# Altium schematic symbol library sensor_accel-gyro-compass.SchLib: 21 symbols
Pins are listed as number, name and electrical type; pins without a type are passive.

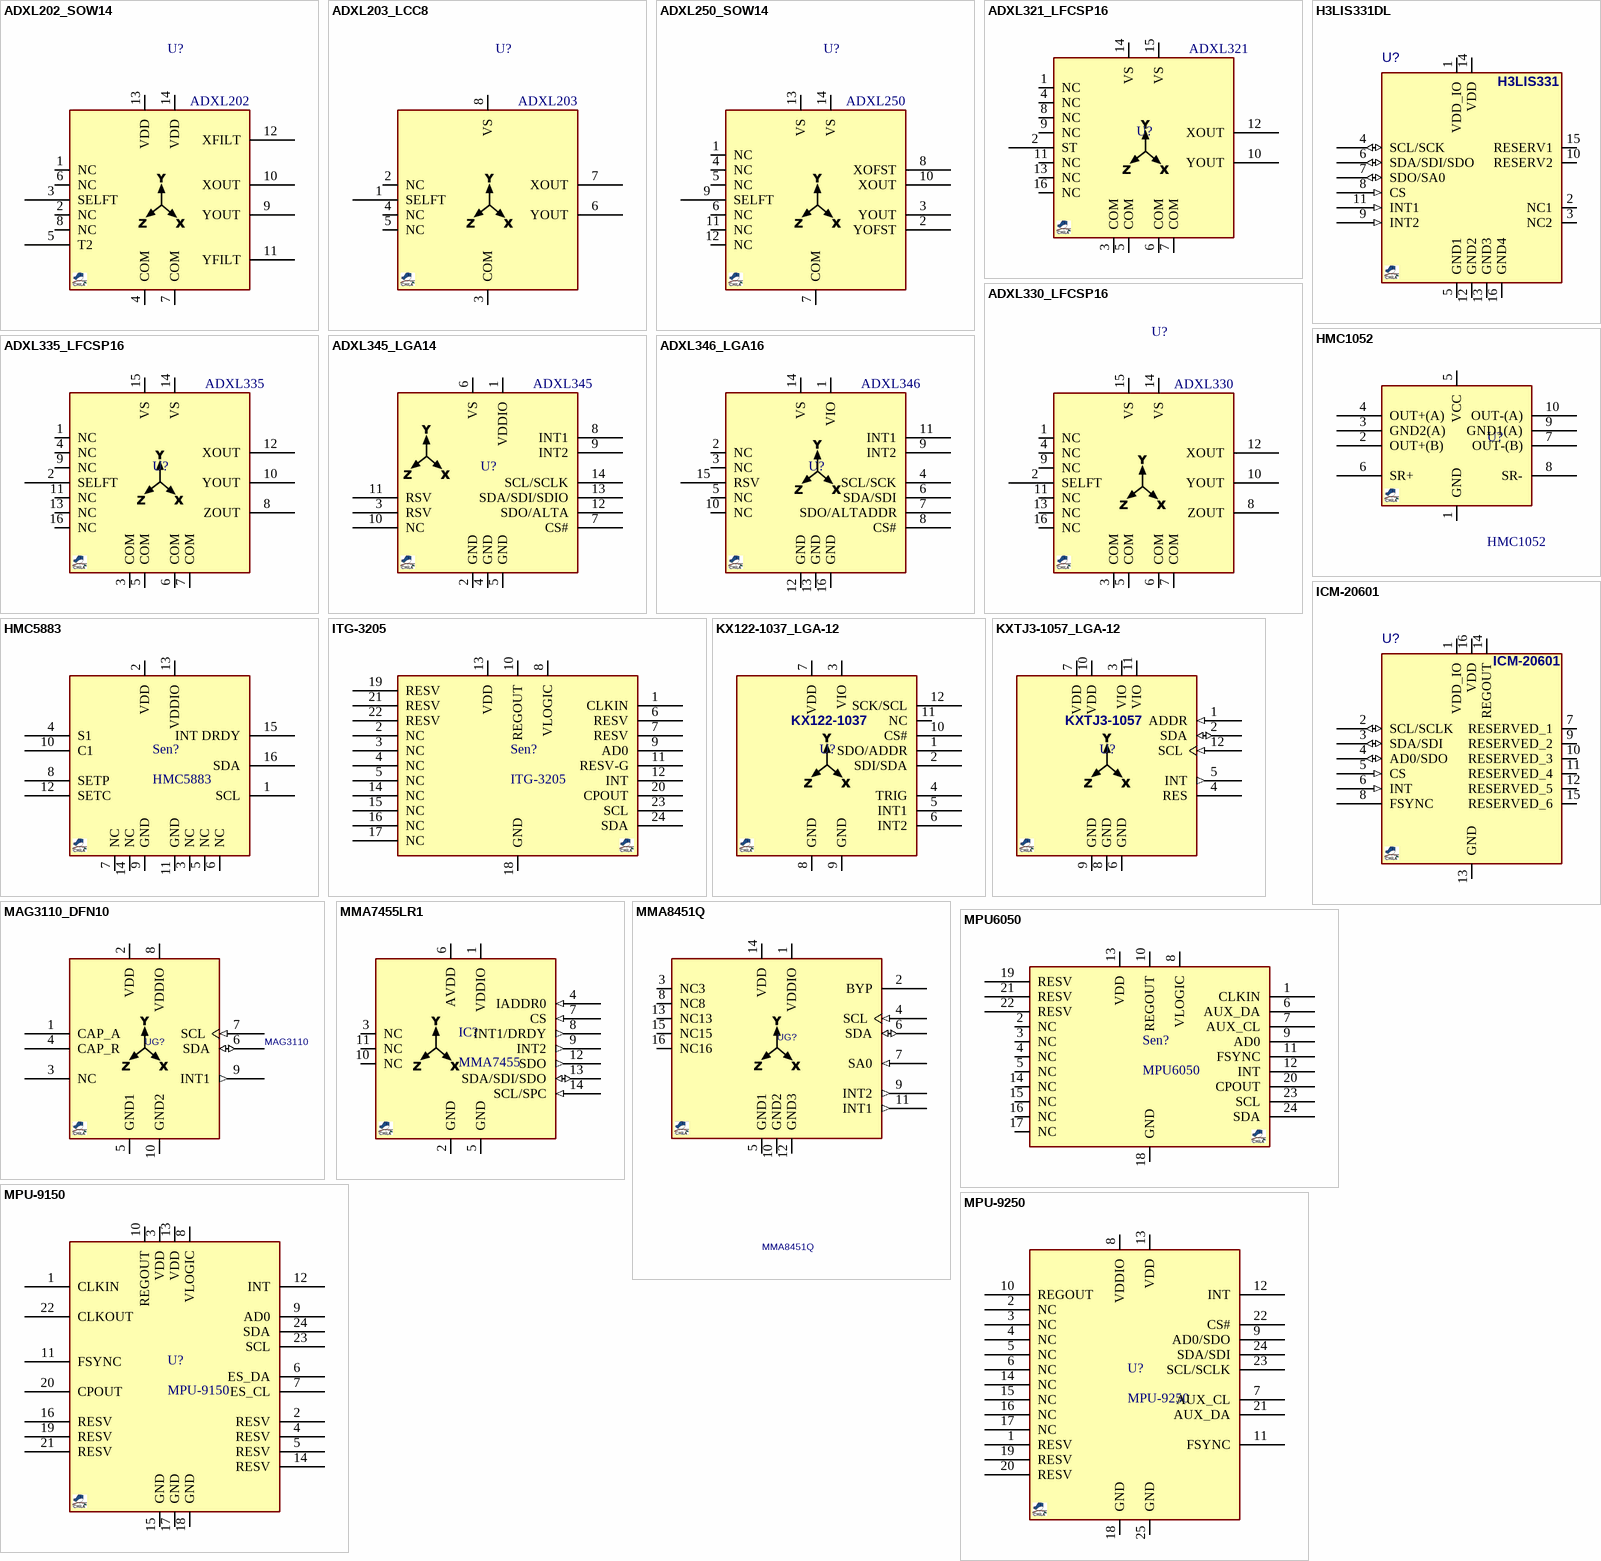
[diagram p0: symbols ADXL202_SOW14 to MPU-9250]

## ADXL202_SOW14
designator U?, comment ADXL202
Sensor, Accelerometer, Dual Axis; MANF: Analog Devices; MANF_P#: ADXL202AQC, ADXL202JQC; PARAM2: 3~5.5VCC; PARAM: PARAM; PRICE: 16,000toman@PAYA; VALUE: ADXL202
footprint QFN127_8_5X5 (E-8-1, LCC 8, ADXL103, ADXL203)
pins: 1 NC, 2 NC, 3 SELFT, 4 COM, 5 T2, 6 NC, 7 COM, 8 NC, 9 YOUT, 10 XOUT, 11 YFILT, 12 XFILT, 13 VDD, 14 VDD

## ADXL203_LCC8
designator U?, comment ADXL203
Sensor, Accelerometer, Dual Axis; MANF: Analog Devices; MANF_P#: ADXL203CE; PARAM2: 3~6VCC; PARAM: PARAM; PRICE: 60,000toman@PAYA; VALUE: ADXL203
footprint QFN127_8_5X5 (E-8-1, LCC 8, ADXL103, ADXL203)
pins: 1 SELFT, 2 NC, 3 COM, 4 NC, 5 NC, 6 YOUT, 7 XOUT, 8 VS

## ADXL250_SOW14
designator U?, comment ADXL250
Sensor, Accelerometer, Dual Axis; MANF: Analog Devices; MANF_P#: ADXL250AQC; PARAM: PARAM; PRICE: 24000toman@PAYA; VALUE: ADXL250
footprint SO_14_W (SOP, SOIC, 7.5mm wide, 1.27mm pitch,)
pins: 1 NC, 2 YOFST, 3 YOUT, 4 NC, 5 NC, 6 NC, 7 COM, 8 XOFST, 9 SELFT, 10 XOUT, 11 NC, 12 NC, 13 VS, 14 VS

## ADXL321_LFCSP16
designator U?, comment ADXL321
Sensor, Accelerometer, Dual Axis, +/-18g, 3mg-resolution@50Hz; MANF: Analog Devices; MANF_P#: ADXL321JCP; PARAM2: 2.4~6VCC; PARAM: +/-18g, 3mg-resolution@50Hz; PRICE: 33000toman@PAYA; VALUE: ADXL321
footprint QFN65_16T_4X4 (QFN, 16-Leads, Body 4.00x4.00mm, Pitch 0.65mm, ADX330)
pins: 1 NC, 2 ST, 3 COM, 4 NC, 5 COM, 6 COM, 7 COM, 8 NC, 9 NC, 10 YOUT, 11 NC, 12 XOUT, 13 NC, 14 VS, 15 VS, 16 NC

## ADXL330_LFCSP16
designator U?, comment ADXL330
Sensor, Accelerometer, 3-Axis, +/-3g; MANF: Analog Devices; MANF_P#: ADXL330K; PARAM2: 1.8~3.6VCC; PARAM: +/-3g; PRICE: 22000toman@PAYA; VALUE: ADXL330
footprint QFN65_16T_4X4 (Footprint not found)
pins: 1 NC, 2 SELFT, 3 COM, 4 NC, 5 COM, 6 COM, 7 COM, 8 ZOUT, 9 NC, 10 YOUT, 11 NC, 12 XOUT, 13 NC, 14 VS, 15 VS, 16 NC

## ADXL335_LFCSP16
designator U?, comment ADXL335
Sensor, Accelerometer, 3-Axis, +/-3g; MANF: Analog Devices; PARAM2: 1.8~3.6VCC; MANF_P#: ADXL335; PARAM: +/-3g; PRICE: 8000toman@PAYA; VALUE: ADXL335
footprint QFN65_16T_4X4 (QFN, 16-Leads, Body 4.00x4.00mm, Pitch 0.65mm, ADX330)
pins: 1 NC, 2 SELFT, 3 COM, 4 NC, 5 COM, 6 COM, 7 COM, 8 ZOUT, 9 NC, 10 YOUT, 11 NC, 12 XOUT, 13 NC, 14 VS, 15 VS, 16 NC

## ADXL345_LGA14
designator U?, comment ADXL345
Sensor, Accelerometer Digital, 3-Axis; MANF: Analog Devices; MANF_P#: ADXL345; PARAM: PARAM; PRICE: 12000toman@PAYA; VALUE: ADXL345
footprint QFN80_14_5X3 (LGA_CC-14-1 ADXL345)
pins: 1 VDDIO, 2 GND, 3 RSV, 4 GND, 5 GND, 6 VS, 7 CS#, 8 INT1, 9 INT2, 10 NC, 11 RSV, 12 SDO/ALTA, 13 SDA/SDI/SDIO, 14 SCL/SCLK

## ADXL346_LGA16
designator U?, comment ADXL346
Sensor, Accelerometer Digital SPI/I2C Interface, 3-Axis, ±2g/±4g/±8g/±16g; MANF: Analog Devices; MANF_P#: ADXL346ACCZ; PARAM2: 1.7~2.75VCC; PARAM: ±2g/±4g/±8g/±16g; PRICE: 5000toman@PAYA; VALUE: ADXL346
footprint QFN50_16_3X3 (LPCC, 16-lead, pitch: 0.5mm, 3x3mm)
pins: 1 VIO, 2 NC, 3 NC, 4 SCL/SCK, 5 NC, 6 SDA/SDI, 7 SDO/ALTADDR, 8 CS#, 9 INT2, 10 NC, 11 INT1, 12 GND, 13 GND, 14 VS, 15 RSV, 16 GND

## H3LIS331DL
designator U?  (value not drawn)
IMU  3-Axis ACCEL  I2C/SPI LGA; MANF: ST; PARAM2: 2.16~3.6Vdd, -40+85°C; PARAM: 3-Axis Accel ±400g; MANF_P#: H3LIS331DL; PRICE: 10$; VALUE: H3LIS331DL
footprint QFN50_16R (TFLGA 3x3x1, 5+3+5+3, 3X3mm, 0.5mm pitch)
pins: 1 VDD_IO "Power supply for I/O pins", 2 NC1 "Not connected", 3 NC2 "Not connected", 4 SCL/SCK (io) "I2C serial clock (SCL) , SPI serial port clock (SPC)", 5 GND1 "0 V supply", 6 SDA/SDI/SDO (io) "I2C serial data (SDA) , SPI serial data input (SDI) , 3-wire interface serial data output (SDO)", 7 SDO/SA0 (io) "SPI serial data output (SDO) , I2C less significant bit of the device address (SA0)", 8 CS (in) "SPI enable , I2C/SPI mode selection (1: I2C mode; 0: SPI enabled)", 9 INT2 (in) "Inertial interrupt 2", 10 RESERV2 "Connect to GND", 11 INT1 (in) "Inertial interrupt 1", 12 GND2 "0 V supply", 13 GND3 "0 V supply", 14 VDD, 15 RESERV1 "Connect to Vdd", 16 GND4 "0 V supply"
text: H3LIS331

## HMC1052
designator U?
SENSOR,  MAGNETIC, 3-AXIS; MANF: Honeywell; MANF_P#: HMC1052; PARAM: PARAM; VALUE: HMC1052
footprint SOG50_10
pins: 1 GND, 2 OUT+(B), 3 GND2(A), 4 OUT+(A), 5 VCC, 6 SR+, 7 OUT-(B), 8 SR-, 9 GND1(A), 10 OUT-(A)

## HMC5883
designator Sen?
Sensor, Compass, I2C interface; MANF: Honeywell; MANF_P#: HMC5883; PARAM: PARAM; VALUE: HMC5883
footprint QFN50_16_3X3 (LPCC, 16-lead, pitch: 0.5mm, 3x3mm)
pins: 1 SCL, 2 VDD, 3 NC, 4 S1, 5 NC, 6 NC, 7 NC, 8 SETP, 9 GND, 10 C1, 11 GND, 12 SETC, 13 VDDIO, 14 NC, 15 INT DRDY, 16 SDA

## ICM-20601
designator U?  (value not drawn)
IMU  6-Axis ACCEL/GYRO/TEMP I2C/SPI LGA; MANF: InvenSense TDK; PARAM2: 1.7~3.45Vdd, -40+85°C; PARAM: 3-Axis Gyro  ±4000dps, 3-Axis Accel ±32g; MANF_P#: ICM-20601; PRICE: 9$; VALUE: ICM-20601
footprint QFN50_16R (MMA8451Q (FREESCALE) 5+3+5+3, 3X3mm, 0.5mm)
pins: 1 VDD_IO "Digital I/O supply voltage", 2 SCL/SCLK (io) "I2C serial clock (SCL); SPI serial clock (SCLK)", 3 SDA/SDI (io) "I2C serial data (SDA); SPI serial data input (SDI)", 4 AD0/SDO (io) "I2C slave address LSB (AD0); SPI serial data output (SDO)", 5 CS (in) "Chip select (0 = SPI mode; 1 = I2C mode)", 6 INT (in) "Interrupt digital output (totem pole or open-drain)", 7 RESERVED_1 "Reserved. Do not connect.", 8 FSYNC "Synchronization digital input (optional). Connect to GND if", 9 RESERVED_2 "Reserved. Connect to GND.", 10 RESERVED_3 "Reserved. Connect to GND.", 11 RESERVED_4 "Reserved. Connect to GND.", 12 RESERVED_5 "Reserved. Connect to GND.", 13 GND "Connect to GND", 14 REGOUT "Regulator filter capacitor connection", 15 RESERVED_6 "Reserved. Connect to GND.", 16 VDD "Power Supply"

## ITG-3205
designator Sen?
Sensor, 3-Axis GyroSensor; MANF: InvenSense; MANF_P#: ITG-3205; PARAM: PARAM; VALUE: ITG-3205
footprint PQFN50_16_3X3 (16 Lead LGA (3x3x0.75) ICM20601)
pins: 1 CLKIN, 2 NC, 3 NC, 4 NC, 5 NC, 6 RESV, 7 RESV, 8 VLOGIC, 9 AD0, 10 REGOUT, 11 RESV-G, 12 INT, 13 VDD, 14 NC, 15 NC, 16 NC, 17 NC, 18 GND, 19 RESV, 20 CPOUT, 21 RESV, 22 RESV, 23 SCL, 24 SDA

## KX122-1037_LGA-12
designator U?, comment KX122-1037  (value not drawn)
Sensor, Accelerometer Digital, SPI/I2C, ±2g/4g/8g Tri-axis; PARAM2: 1.7V to 3.6V; MANF: Kionix; MANF_P#: KX122-1037-FR; Value: KX122-1037; PARAM: ±2g/4g/8g; PRICE: 2$
footprint QFN50_12_2X2 (LGA, 12-Leads, Body 2.00x2.00mmx1.00mm, Pitch 0.50mm)
pins: 1 SDO/ADDR "No internal connection. Leave  unconnected or connect to Ground", 2 SDI/SDA "No internal connection. Leave  unconnected or connect to Ground", 3 VIO "I2C Address Bit 0", 4 TRIG "Interrupt 1/ Data Ready", 5 INT1 "I2C Serial Clock (SCL), SPI Serial  Clock (SPC)", 6 INT2 "No internal connection. Leave  unconnected or connect to Ground", 7 VDD "I2C Serial Data (SDA), SPI Serial  Data Input (SDI), 3-wire interface  Serial Data Output (SDO)", 8 GND "SPI Enable (0), I2C Enable (1)", 9 GND "SPI Serial Data Output", 10 CS# "Analog Power", 11 NC "Interrupt 2", 12 SCK/SCL "Digital Power for I/O pads"

## KXTJ3-1057_LGA-12
designator U?, comment KXTJ3-1057
Sensor, Accelerometer Digital, I2C, ±2g/4g/8g/16g Tri-axis; PARAM2: 1.7V to 3.6V, LGA-12; MANF: Kionix; MANF_P#: KX122-1037-FR; PARAM: ±2g/4g/8g/16g; PRICE: 1000 : 0.7$; Value: KXTJ3-1057
footprint QFN50_12_2X2 (LGA, 12-Leads, Body 2.00x2.00mmx1.00mm, Pitch 0.50mm)
pins: 1 ADDR (in), 2 SDA (io), 3 VIO (power), 4 RES, 5 INT (out), 6 GND (power), 7 VDD (power), 8 GND (power), 9 GND (power), 10 VDD (power), 11 VIO (power), 12 SCL (in)

## MAG3110_DFN10
designator UG?, comment MAG3110
Sensor, MAGNETOMETER, 3-AXIS, DIGITAL 1.95-3.6V DFN10; MANF: FREESCALE SEMICONDUCTOR; VALUE: MAG3112; MANF_P#: MAG3110; PARAM: PARAM
footprint SON40_10_2X2 (DFN pitch:2mm 2X2X0.85mm)
pins: 1 CAP_A, 2 VDD (power), 3 NC, 4 CAP_R, 5 GND1 (power), 6 SDA (io), 7 SCL (in), 8 VDDIO (power), 9 INT1 (out), 10 GND2 (power)

## MMA7455LR1
designator IC?, comment MMA7455
Sensor, Accelerometer Digital, ±2g/±4g/±8g Three Axis Low-g; PARAM2: 2.4V to 3.6V; Value: MMA7455; PARAM: PARAM
footprint QFN80_14_5X3 (LGA_CC-14-1 ADXL345)
pins: 1 VDDIO (power) "Digital Power for I/O pads", 2 GND (power) "Ground", 3 NC "No internal connection. Leave  unconnected or connect to Ground", 4 IADDR0 (in) "I2C Address Bit 0", 5 GND (power) "Ground", 6 AVDD (power) "Analog Power", 7 CS (in) "SPI Enable (0), I2C Enable (1)", 8 INT1/DRDY (out) "Interrupt 1/ Data Ready", 9 INT2 (out) "Interrupt 2", 10 NC "No internal connection. Leave  unconnected or connect to Ground", 11 NC "No internal connection. Leave  unconnected or connect to Ground", 12 SDO (out) "SPI Serial Data Output", 13 SDA/SDI/SDO (io) "I2C Serial Data (SDA), SPI Serial  Data Input (SDI), 3-wire interface  Serial Data Output (SDO)", 14 SCL/SPC (in) "I2C Serial Clock (SCL), SPI Serial  Clock (SPC)"

## MMA8451Q
designator UG?
Sensor, ACCELEROMETER, 3-AXIS DIG 14/8BIT 1.95-3.6V QFN16; MANF_P#: MMA8451QT; MANF: FREESCALE SEMICONDUCTOR; PARAM: PARAM; VALUE: MMA8451Q
footprint QFN50_16R (MMA8451Q (FREESCALE) 5+3+5+3, 3X3mm, 0.5mm)
pins: 1 VDDIO (power), 2 BYP, 3 NC3, 4 SCL (in), 5 GND1 (power), 6 SDA (io), 7 SA0 (in), 8 NC8, 9 INT2 (out), 10 GND2 (power), 11 INT1 (out), 12 GND3 (power), 13 NC13, 14 VDD (power), 15 NC15, 16 NC16

## MPU6050
designator Sen?
IC, Accelerometer 3-Axis & Gyro; MANF: InvenSense; PARAM: PARAM; VALUE: MPU6050
footprint QFN50_24T (MO-220 (JEDEC), RGE S-PQFP-N24 (TI), 4X4mm, 0.5mm, HVQFN24)
pins: 1 CLKIN, 2 NC, 3 NC, 4 NC, 5 NC, 6 AUX_DA, 7 AUX_CL, 8 VLOGIC, 9 AD0, 10 REGOUT, 11 FSYNC, 12 INT, 13 VDD, 14 NC, 15 NC, 16 NC, 17 NC, 18 GND, 19 RESV, 20 CPOUT, 21 RESV, 22 RESV, 23 SCL, 24 SDA

## MPU-9150
designator U?
IMU ACCEL/GYRO/MAG I2C 24LGA; MANF: InvenSense; VALUE: MPU-9150; PRICE: 10$; MANF_P#: MPU-9150; PARAM: PARAM
footprint QFN50_24T (MO-220 (JEDEC), RGE S-PQFP-N24 (TI), 4X4mm, 0.5mm, HVQFN24)
pins: 1 CLKIN, 2 RESV, 3 VDD, 4 RESV, 5 RESV, 6 ES_DA, 7 ES_CL, 8 VLOGIC, 9 AD0, 10 REGOUT, 11 FSYNC, 12 INT, 13 VDD, 14 RESV, 15 GND, 16 RESV, 17 GND, 18 GND, 19 RESV, 20 CPOUT, 21 RESV, 22 CLKOUT, 23 SCL, 24 SDA

## MPU-9250
designator U?
IMU ACCEL/GYRO/MAG I2C 24LGA; MANF: InvenSense; VALUE: MPU-9250; PRICE: 10$; MANF_P#: MPU-9250; PARAM: PARAM
footprint QFN40_24T (QFN, 24-Leads, Body 3.5x3.5mm, Pitch 0.40mm)
pins: 1 RESV, 2 NC, 3 NC, 4 NC, 5 NC, 6 NC, 7 AUX_CL, 8 VDDIO, 9 AD0/SDO, 10 REGOUT, 11 FSYNC, 12 INT, 13 VDD, 14 NC, 15 NC, 16 NC, 17 NC, 18 GND, 19 RESV, 20 RESV, 21 AUX_DA, 22 CS#, 23 SCL/SCLK, 24 SDA/SDI, 25 GND